# EAGLE library part 24* (library 00_microchip)
Serial EEPROM I2C
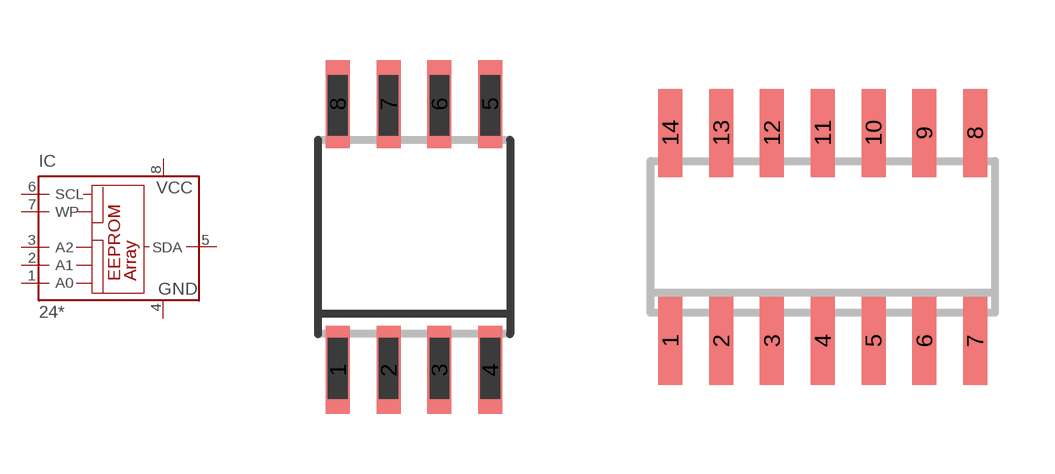
[diagram p33: symbol with the pads of SO-08M; footprints SO-08M, SO-14]

Designator prefix IC

## 24AA01SM (MF: MICROCHIP; MPN: 24AA01-I/SN; OC_FARNELL: 1331268; OC_NEWARK: 92C6793), 24AA02SM (MF: MICROCHIP; MPN: 24AA02-I/SN; OC_FARNELL: 1331272; OC_NEWARK: 92C6803), 24AA04SM (MF: MICROCHIP; MPN: 24AA04-I/SN; OC_FARNELL: 1331276; OC_NEWARK: 92C6814), 24AA08SM (MF: MICROCHIP; MPN: 24AA08-I/SN; OC_FARNELL: 1331282; OC_NEWARK: 92C6826), 24AA128SM (MF: MICROCHIP; MPN: 24AA128-I/MS; OC_FARNELL: 1331285; OC_NEWARK: 92C6839), 24AA16SM (MF: MICROCHIP; MPN: 24AA16-I/SN; OC_FARNELL: 1331289; OC_NEWARK: 96K4056), 24AA32ASM (MF: MICROCHIP; MPN: 24AA32A-I/SN; OC_FARNELL: 1617659; OC_NEWARK: 83C5815), 24C01ASM (MF: MICROCHIP; MPN: 24C01C/SN; OC_FARNELL: 1362638; OC_NEWARK: 96K4061), 24C02ASM (MF: MICROCHIP; MPN: 24C02C/SN; OC_FARNELL: 1084339; OC_NEWARK: 96K4065), 24C04ASM (MPN: M24C04-WMN6P; OC_FARNELL: 9882812; OC_NEWARK: 83K1376), 24C08BSM (MPN: AT24C08BN-SH-B; OC_FARNELL: 1362645; OC_NEWARK: 50M3318), 24C32ASM (MPN: IS24C32A-2GLI; OC_FARNELL: 1718129; OC_NEWARK: 43M4588), 24C64SM (MF: RAMTRON INTERNATIONAL CORP; MPN: FM24C64-S; OC_FARNELL: 9882685; OC_NEWARK: 98H0189), 24CL04BSM (MPN: FM24CL04-S; OC_FARNELL: 1607928; OC_NEWARK: 97H6443), 24LC08BSM (MF: MICROCHIP; MPN: 24LC08BT-I/SN; OC_FARNELL: 1818714; OC_NEWARK: 92C7127), 24LC128SM (MF: MICROCHIP; MPN: 24LC128-I/SM; OC_FARNELL: 9757937; OC_NEWARK: 92C7134), 24LC16BSM (MF: MICROCHIP; MPN: 24LC16B/SN; OC_FARNELL: 9757945; OC_NEWARK: 12C2012), 24LC32ASM (MF: MICROCHIP; MPN: 24LC32A/SM; OC_FARNELL: 1212670; OC_NEWARK: 96K4080), 24LC64SM (MF: MICROCHIP; MPN: 24LC64T-I/SN; OC_FARNELL: 9758070; OC_NEWARK: 12C2021)  [SO-08M]
1  A0  in
2  A1  in
3  A2  in
4  GND  pwr
5  SDA
6  SCL  in
7  WP  in
8  VCC  pwr

## 24AA04SL (OC_FARNELL: unknown; OC_NEWARK: unknown), 24AA08SL (OC_FARNELL: unknown; OC_NEWARK: unknown), 24AA16SL (OC_FARNELL: unknown; OC_NEWARK: unknown), 24C01ASL (OC_FARNELL: unknown; OC_NEWARK: unknown), 24C02ASL (OC_FARNELL: unknown; OC_NEWARK: unknown), 24C04ASL (OC_FARNELL: unknown; OC_NEWARK: unknown), 24C08BSL (OC_FARNELL: unknown; OC_NEWARK: unknown), 24C16BSL (OC_FARNELL: unknown; OC_NEWARK: unknown), 24CL04ASL (OC_FARNELL: unknown; OC_NEWARK: unknown), 24LC08BSL (OC_FARNELL: unknown; OC_NEWARK: unknown), 24LC16BSL (OC_FARNELL: unknown; OC_NEWARK: unknown)  [SO-14]
2  A0  in
3  A1  in
5  A2  in
6  GND  pwr
9  SDA
10  SCL  in
12  WP  in
13  VCC  pwr

## 24AA01P (MPN: 24AA01-I/P; OC_FARNELL: 1331266; OC_NEWARK: 35M0692), 24AA02P (MPN: 24AA02-I/P; OC_FARNELL: 1331271; OC_NEWARK: 95M2072), 24AA04P (MPN: 24AA04-I/P; OC_FARNELL: 1331275; OC_NEWARK: 35M0696), 24AA08P (MF: MICROCHIP; MPN: 24AA08-I/P; OC_FARNELL: 1331281; OC_NEWARK: 92C6825), 24AA128P (MF: MICROCHIP; MPN: 24AA128-I/P; OC_FARNELL: unknown; OC_NEWARK: 92C6840), 24AA16P (MPN: 24AA16-I/P; OC_FARNELL: 1331287; OC_NEWARK: 35M0705), 24AA256P (MF: MICROCHIP; MPN: 24AA256-I/P; OC_FARNELL: 1331294; OC_NEWARK: 92C6872), 24AA32AP (MF: MICROCHIP; MPN: 24AA32A-I/P; OC_FARNELL: 1331297; OC_NEWARK: 92C6885), 24AA64P (MF: MICROCHIP; MPN: 24AA64-I/P; OC_FARNELL: 1331303; OC_NEWARK: 92C6909), 24C01AP (MPN: M24C01-WBN6P; OC_FARNELL: 9882782; OC_NEWARK: 24M5067), 24C02AP (MF: MICROCHIP; MPN: 24C02C-I/P; OC_FARNELL: 1755843; OC_NEWARK: 96K4062), 24C04AP (MF: RAMTRON INTERNATIONAL CORP; MPN: FM24C04A-P; OC_FARNELL: 1094258; OC_NEWARK: 97H6447), 24C08BP (MPN: AT24C08B-PU; OC_FARNELL: 1362644; OC_NEWARK: 50M3317), 24C16BP (MPN: AT24C16B-PU; OC_FARNELL: 1362650; OC_NEWARK: 50M3323), 24C32AP (MPN: AT24C32C-PU; OC_FARNELL: 1362652; OC_NEWARK: 50M3325), 24C64P (MF: RAMTRON INTERNATIONAL CORP; MPN: FM24C64-P; OC_FARNELL: 1362657; OC_NEWARK: 97H6452), 24CL04BP (OC_FARNELL: unknown; OC_NEWARK: unknown), 24LC01P (MPN: 24LC01BH-I/P; OC_FARNELL: 1200025; OC_NEWARK: 77M3542), 24LC024P (MPN: 24LC024-I/P; OC_FARNELL: 1331317; OC_NEWARK: 35M0731), 24LC025P (MF: MICROCHIP; MPN: 24LC025-I/P; OC_FARNELL: unknown; OC_NEWARK: 92C7098), 24LC04P (MF: MICROCHIP; MPN: 24LC04B-I/P; OC_FARNELL: 1196811; OC_NEWARK: 62K0576), 24LC08BP (MF: MICROCHIP; MPN: 24LC08B/P; OC_FARNELL: 1084245; OC_NEWARK: 96K4073), 24LC128P (MF: MICROCHIP; MPN: 24LC128-I/P; OC_FARNELL: 9757929; OC_NEWARK: 12C2007), 24LC16BP (MF: MICROCHIP; MPN: 24LC16B/P; OC_FARNELL: 1200026; OC_NEWARK: 69K7671), 24LC256P (MF: MICROCHIP; MPN: 24LC256-E/P; OC_FARNELL: 9757970; OC_NEWARK: 92C7169), 24LC32AP (MF: MICROCHIP; MPN: 24LC32A/P; OC_FARNELL: 1084246; OC_NEWARK: 75K1884), 24LC64P (MF: MICROCHIP; MPN: 24LC64-I/P; OC_FARNELL: 9758054; OC_NEWARK: 62K0584), 24LCS52P (MF: MICROCHIP; MPN: 24LCS52-I/PG; OC_FARNELL: unknown; OC_NEWARK: 89H3098)  [DIL8]
Pads as for SO-08M

## 24AA01SN (MF: MICROCHIP; MPN: 24AA01/SN; OC_FARNELL: 1331268; OC_NEWARK: 89C9792), 24AA02SN (MPN: 24AA02/SN; OC_FARNELL: 1331272; OC_NEWARK: 89C9793), 24AA04SN (MF: MICROCHIP; MPN: 24AA04/SN; OC_FARNELL: 1331276; OC_NEWARK: 92C6818), 24AA08SN (MF: MICROCHIP; MPN: 24AA08-I/SN; OC_FARNELL: 1579568; OC_NEWARK: 92C6826), 24AA128SN (MF: MICROCHIP; MPN: 24AA128-I/SN; OC_FARNELL: unknown; OC_NEWARK: 92C6842), 24AA16SN (MF: MICROCHIP; MPN: 24AA16-I/SN; OC_FARNELL: 1331289; OC_NEWARK: 96K4056), 24AA256SN (MPN: 24AA256T-I/SM; OC_FARNELL: 1579570; OC_NEWARK: 08N6838), 24AA32ASN (MF: MICROCHIP; MPN: 24AA32A-I/SN; OC_FARNELL: 1617659; OC_NEWARK: 83C5815), 24AA64SN (MF: MICROCHIP; MPN: 24AA64-I/SN; OC_FARNELL: 1331304; OC_NEWARK: 85C2288), 24C08BSN (MPN: AT24C08BN-SH-B; OC_FARNELL: 1362645; OC_NEWARK: 50M3318), 24C16BSN (MPN: AT24C16BN-SH-B; OC_FARNELL: 1362651; OC_NEWARK: 50M3324), 24C32ASN (MPN: IS24C32A-2GLI; OC_FARNELL: 1224413; OC_NEWARK: 43M4588), 24CL04BSN (MF: RAMTRON INTERNATIONAL CORP; MPN: FM24CL04-G; OC_FARNELL: 1607928; OC_NEWARK: 10J0444), 24LC024SN (MF: MICROCHIP; MPN: 24LC024/SN; OC_FARNELL: 1659744; OC_NEWARK: 92C7092), 24LC025SN (MF: MICROCHIP; MPN: 24LC025/SN; OC_FARNELL: unknown; OC_NEWARK: 92C7103), 24LC08BSN (MPN: 24LC08B/SN; OC_FARNELL: 1212669; OC_NEWARK: 12C2005), 24LC128SN (MF: MICROCHIP; MPN: 24LC128-I/SNG; OC_FARNELL: 9757937; OC_NEWARK: 30H1511), 24LC16BSN (MF: MICROCHIP; MPN: 24LC16B/SN; OC_FARNELL: 9757945; OC_NEWARK: 12C2012), 24LC256SN (MF: MICROCHIP; MPN: 24LC256-I/SN; OC_FARNELL: 9757996; OC_NEWARK: 27C9144), 24LC32ASN (MF: MICROCHIP; MPN: 24LC32A/SN; OC_FARNELL: 9758003; OC_NEWARK: 33C2976), 24LC64SN (MF: MICROCHIP; MPN: 24LC64-I/SN; OC_FARNELL: 9758070; OC_NEWARK: 12C2020), 24LCS52SN (MF: MICROCHIP; MPN: 24LCS52-I/SN; OC_FARNELL: 1816066; OC_NEWARK: 92C7032)  [SO-08]
Pads as for SO-08M

## 24AA128ST (MF: MICROCHIP; MPN: 24AA128-I/ST; OC_FARNELL: unknown; OC_NEWARK: 92C6843), 24AA64ST (MPN: 25AA640A-I/ST; OC_FARNELL: 1818513; OC_NEWARK: 27M1300), 24C64ST (MPN: CAT24C64YI-GT3; OC_FARNELL: 1718133; OC_NEWARK: 08R5418), 24LC024ST (MPN: 24LC024H-I/ST; OC_FARNELL: 1659745; OC_NEWARK: 77M3584), 24LC025ST (MF: MICROCHIP; MPN: 24LC025-I/ST; OC_FARNELL: unknown; OC_NEWARK: 92C7100), 24LC128ST (MF: MICROCHIP; MPN: 24LC128-I/ST; OC_FARNELL: 1296573; OC_NEWARK: 62K0578), 24LC64ST (MF: MICROCHIP; MPN: 24LC64X-I/ST; OC_FARNELL: 1296582; OC_NEWARK: 96K4081), 24LCS52ST (MF: MICROCHIP; MPN: 24LCS52T/ST; OC_FARNELL: unknown; OC_NEWARK: 92C7040)  [TSSOP8]
Pads as for SO-08M

## Footprint SO-08M (pad centres in mm)
Small Outline Medium Plastic Gull Wing 207-mil body, package type SM
smd 0.6 x 2.2: 1 -1.905,-3.33; 2 -0.635,-3.33; 3 0.635,-3.33; 4 1.905,-3.33; 5 1.905,3.33; 6 0.635,3.33; 7 -0.635,3.33; 8 -1.905,3.33

## Footprint SO-14 (pad centres in mm)
Small Outline Narrow Plastic Gull Wing 150-mil body, package type SL
smd 0.6 x 2.2: 1 -3.81,-2.6; 2 -2.54,-2.6; 3 -1.27,-2.6; 4 0,-2.6; 5 1.27,-2.6; 6 2.54,-2.6; 7 3.81,-2.6; 8 3.81,2.6; 9 2.54,2.6; 10 1.27,2.6; 11 0,2.6; 12 -1.27,2.6; 13 -2.54,2.6; 14 -3.81,2.6

## Footprint DIL8 (pad centres in mm)
Dual In Line package type P
drill 0.813 long: 1 -3.81,-3.81; 2 -1.27,-3.81; 3 1.27,-3.81; 4 3.81,-3.81; 5 3.81,3.81; 6 1.27,3.81; 7 -1.27,3.81; 8 -3.81,3.81

## Footprint SO-08 (pad centres in mm)
Small Outline Narrow Plastic Gull Wing 150-mil body, package type SN
smd 0.6 x 2.2: 1 -1.905,-2.6; 2 -0.635,-2.6; 3 0.635,-2.6; 4 1.905,-2.6; 5 1.905,2.6; 6 0.635,2.6; 7 -0.635,2.6; 8 -1.905,2.6

## Footprint TSSOP8 (pad centres in mm)
Thin Shrink Small Outline Package package type ST
smd 0.35 x 1.2: 1 -0.975,-2.925; 2 -0.325,-2.925; 3 0.325,-2.925; 4 0.975,-2.925; 5 0.975,2.925; 6 0.325,2.925; 7 -0.325,2.925; 8 -0.975,2.925